# Altium schematic symbol library EEUFC2A100B.SchLib: 1 symbol
Pins are listed as number, name and electrical type; pins without a type are passive.

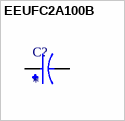
[diagram p0: symbol EEUFC2A100B]

## EEUFC2A100B
designator C?
Cap Aluminum Lytic 10uF 100V 20% Radial 105C Automotive Ammo; MF: Panasonic; MP: EEU-FC2A100B; Value: *; Price: None; Package: RADIAL-2 Panasonic; SnapEDA_Link: https://www.snapeda.com/parts/EEU-FC2A100B/Panasonic/view-part/2304901/?ref=snap; Check_prices: https://www.snapeda.com/parts/EEU-FC2A100B/Panasonic/view-part/2304901/?ref=eda; Availability: In Stock; Purchase-URL: https://pricing.snapeda.com/search/part/EEU-FC2A100B/?ref=eda
footprint CAPPRD500W50D630H1120
pins: N, P